# EAGLE library part AD723 (library Atari)
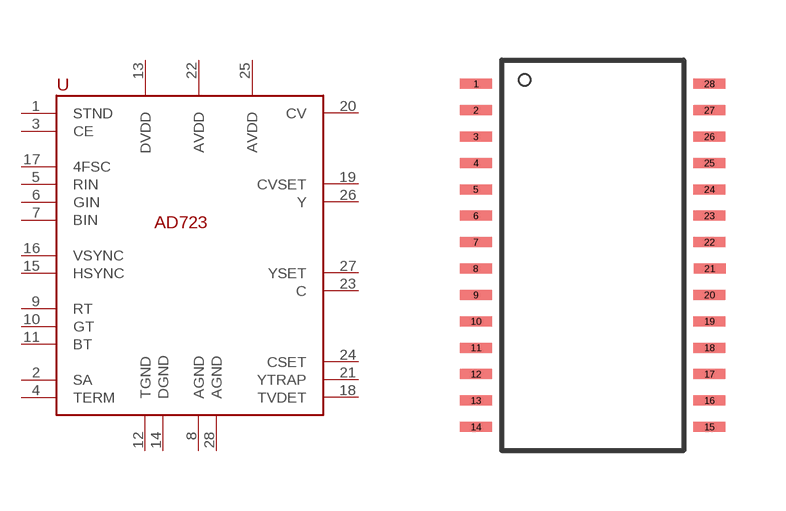
[diagram p5: symbol with the pads of TSSOP28; footprint TSSOP28]

Designator prefix -

## AD723  [TSSOP28]
1  STND  in
2  SA  in
3  CE
4  TERM
5  RIN  in
6  GIN  in
7  BIN  in
8  AGND
9  RT
10  GT
11  BT
12  TGND
13  DVDD
14  DGND
15  HSYNC
16  VSYNC
17  4FSC
18  TVDET
19  CVSET
20  CV
21  YTRAP
22  AVDD
23  C  out
24  CSET
25  AVDD
26  Y  out
27  YSET
28  AGND

## Footprint TSSOP28 (pad centres in mm)
smd 0.8 x 0.25: 1 -2.921,4.623; 2 -2.921,3.962; 3 -2.921,3.302; 4 -2.921,2.642; 5 -2.921,1.981; 6 -2.921,1.321; 7 -2.921,0.66; 8 -2.927,0; 9 -2.921,-0.66; 10 -2.921,-1.321; 11 -2.921,-1.981; 12 -2.921,-2.642; 13 -2.921,-3.302; 14 -2.921,-3.962; 15 2.921,-3.962; 16 2.921,-3.302; 17 2.921,-2.642; 18 2.921,-1.981; 19 2.921,-1.321; 20 2.921,-0.66; 21 2.927,0; 22 2.921,0.66; 23 2.921,1.321; 24 2.921,1.981; 25 2.921,2.642; 26 2.921,3.302; 27 2.921,3.962; 28 2.921,4.623